# EAGLE library part MCP16301/H (library mcp16301)
High-Voltage Input Integrated Switch Step-Down Regulator
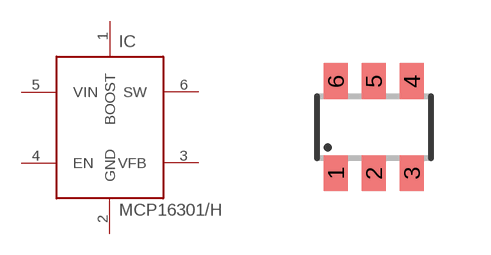
[diagram p0: symbol with the pads of SOT23-6; footprint SOT23-6]

Designator prefix IC

## MCP16301/H  [SOT23-6]
1  BOOST
2  GND  pwr
3  VFB
4  EN
5  VIN  pwr
6  SW  pwr

## Footprint SOT23-6 (pad centres in mm)
Small Outline Transistor 6 lead package
smd 0.6 x 0.9: 1 -0.95,-1.15; 2 0,-1.15; 3 0.95,-1.15; 4 0.95,1.15; 5 0,1.15; 6 -0.95,1.15